# Altium footprint library Quadcopter.PcbLib: 19 footprints (part 1 of 2)
Each footprint in its own frame and in the unit in brackets; x right, y up, seen from the top. Pads: shape width x height; smd on the part's side, far side on the other; paste and mask are expansions set on the pad; w line width, h text height; cw(c..) or ccw(c..) is an arc to the next point about the centre after c.
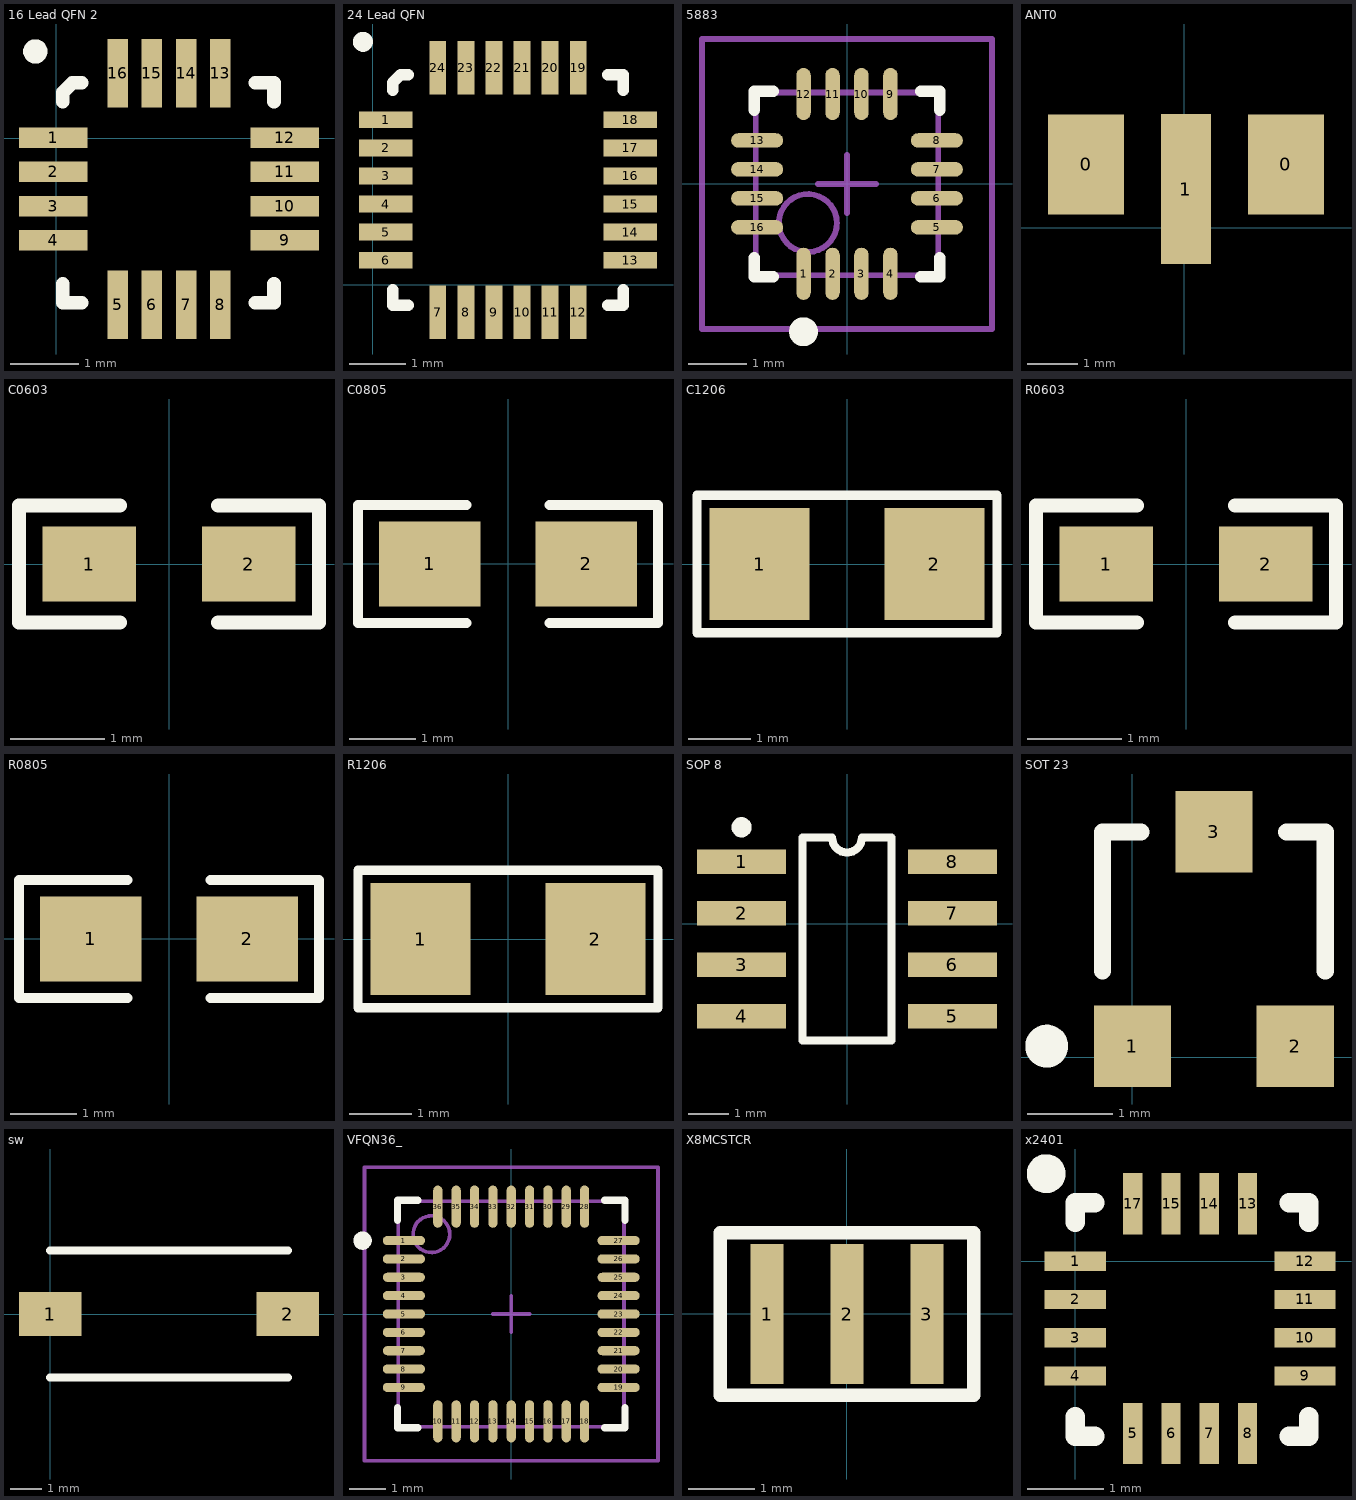
[diagram p0: the footprints below, top view; thin cyan lines are the x and y axes]

## 16 Lead QFN 2 [mm]
pads (16):
  rect 1x0.3 smd: 1(-0.042,0.011) 2(-0.042,-0.489) 3(-0.042,-0.989) 4(-0.042,-1.489) 9(3.34,-1.489) 10(3.34,-0.989) 11(3.34,-0.489) 12(3.34,0.011)
  rect 0.3x1 smd: 5(0.899,-2.43) 6(1.399,-2.43) 7(1.899,-2.43) 8(2.399,-2.43) 13(2.399,0.952) 14(1.899,0.952) 15(1.399,0.952) 16(0.899,0.952)
Top Overlay:
  circle w0.254: c-0.304,1.27 r0.05
  lines w0.2: 0.099,-2.125 0.099,-2.4 0.374,-2.4 ; 0.099,0.536 0.099,0.674 0.236,0.811 0.374,0.811 ; 2.908,-2.4 3.183,-2.4 3.183,-2.125 ; 2.908,0.811 3.183,0.811 3.183,0.536
3D body: height 0.9, standoff 0, extent 0.127,-2.413 3.175,0.762

## 24 Lead QFN [mm]
pads (24):
  rect 0.95x0.3 smd: 1(0.228,2.932) 2(0.228,2.432) 3(0.228,1.932) 4(0.228,1.432) 5(0.228,0.932) 6(0.228,0.432) 13(4.578,0.432) 14(4.578,0.932) 15(4.578,1.432) 16(4.578,1.932) 17(4.578,2.432) 18(4.578,2.932)
  rect 0.3x0.95 smd: 7(1.153,-0.493) 8(1.653,-0.493) 9(2.153,-0.493) 10(2.653,-0.493) 11(3.153,-0.493) 12(3.653,-0.493) 19(3.653,3.857) 20(3.153,3.857) 21(2.653,3.857) 22(2.153,3.857) 23(1.653,3.857) 24(1.153,3.857)
Top Overlay:
  circle w0.254: c-0.177,4.318 r0.05
  lines w0.2: 0.353,-0.093 0.353,-0.368 0.628,-0.368 ; 0.353,3.457 0.353,3.595 0.49,3.732 0.628,3.732 ; 4.178,-0.368 4.453,-0.368 4.453,-0.093 ; 4.178,3.732 4.453,3.732 4.453,3.457
3D body: height 0.89, standoff 0, extent 0.381,-0.381 4.445,3.683

## 5883 [mm] "QNF16"
pads (16):
  oval 0.25x0.9 smd: 1(-0.75,-1.55) 2(-0.25,-1.55) 3(0.25,-1.55) 4(0.75,-1.55) 9(0.75,1.55) 10(0.25,1.55) 11(-0.25,1.55) 12(-0.75,1.55)
  oval 0.9x0.25 smd: 5(1.55,-0.75) 6(1.55,-0.25) 7(1.55,0.25) 8(1.55,0.75) 13(-1.55,0.75) 14(-1.55,0.25) 15(-1.55,-0.25) 16(-1.55,-0.75)
Top Overlay:
  circle w0.25: c-0.75,-2.55 r0.125
  lines w0.2: -1.6,-1.275 -1.6,-1.6 -1.275,-1.6 ; -1.6,1.275 -1.6,1.6 -1.275,1.6 ; 1.275,-1.6 1.6,-1.6 1.6,-1.275 ; 1.275,1.6 1.6,1.6 1.6,1.275
Mechanical 13:
  circle w0.1: c-0.675,-0.675 r0.5
  lines w0.1: -1.575,-1.575 -1.575,1.575 1.575,1.575 1.575,-1.575 -1.575,-1.575
Mechanical 15:
  lines w0.1: -0.5,0 0.5,0 ; 0,-0.5 0,0.5 ; -2.5,-2.5 -2.5,2.5 2.5,2.5 2.5,-2.5 -2.5,-2.5
3D body: height 0.8, standoff 0, extent -1.575,-1.575 1.575,1.575

## ANT0 [mm]
pads (3):
  rect 1.524x2 smd: 0(-1.968,1.27) 0(2.032,1.27)
  rect 1x3 smd: 1(0.032,0.778)

## C0603 [mm]
pads (2):
  rect 1x0.8 smd: 1(-0.85,0) 2(0.85,0)
Top Overlay:
  lines w0.15: -0.525,-0.625 -1.6,-0.625 -1.6,0.625 -0.525,0.625 ; 0.525,-0.625 1.6,-0.625 1.6,0.625 0.525,0.625
3D body: height 0.8, standoff 0, extent -0.489,-0.381 0.489,0.381
3D body: height 0.8, standoff 0, extent 0.489,-0.381 0.787,0.381
3D body: height 0.8, standoff 0, extent -0.787,-0.381 -0.489,0.381

## C0805 [mm]
pads (2):
  rect 1.524x1.27 smd: 1(-1.175,0) 2(1.175,0)
Top Overlay:
  lines w0.15: -0.625,-0.887 -2.25,-0.887 -2.25,0.887 -0.625,0.887 ; 0.625,-0.888 2.25,-0.888 2.25,0.887 0.625,0.887
3D body: height 1, standoff 0, extent -1,-0.6 -0.595,0.6
3D body: height 1, standoff 0, extent 0.595,-0.6 1,0.6
3D body: height 1, standoff 0, extent -0.595,-0.6 0.595,0.6

## C1206 [mm]
pads (2):
  rect 1.6x1.8 smd: 1(-1.4,0) 2(1.4,0)
Top Overlay:
  lines w0.15: -2.4,-1.1 2.4,-1.1 2.4,1.1 -2.4,1.1 -2.4,0 -2.4,-1.1
3D body: height 1.25, standoff 0, extent -1.6,-0.8 -1.1,0.8
3D body: height 1.25, standoff 0, extent 1.1,-0.8 1.6,0.8
3D body: height 1.25, standoff 0, extent -1.1,-0.8 1.1,0.8

## R0603 [mm]
pads (2):
  rect 1x0.8 smd: 1(-0.85,0) 2(0.85,0)
Top Overlay:
  lines w0.15: -0.525,-0.625 -1.6,-0.625 -1.6,0.625 -0.525,0.625 ; 0.525,-0.625 1.6,-0.625 1.6,0.625 0.525,0.625
3D body: height 0.4, standoff 0, extent -0.787,-0.381 -0.489,0.381
3D body: height 0.4, standoff 0, extent 0.489,-0.381 0.787,0.381
3D body: height 0.4, standoff 0, extent -0.489,-0.381 0.489,0.381

## R0805 [mm]
pads (2):
  rect 1.524x1.27 smd: 1(-1.175,0) 2(1.175,0)
Top Overlay:
  lines w0.15: -0.625,-0.887 -2.25,-0.887 -2.25,0.887 -0.625,0.887 ; 0.625,-0.888 2.25,-0.888 2.25,0.887 0.625,0.887
3D body: height 0.5, standoff 0, extent -0.595,-0.6 0.595,0.6
3D body: height 0.5, standoff 0, extent 0.595,-0.6 1,0.6
3D body: height 0.5, standoff 0, extent -1,-0.6 -0.595,0.6

## R1206 [mm]
pads (2):
  rect 1.6x1.8 smd: 1(-1.4,0) 2(1.4,0)
Top Overlay:
  lines w0.15: -2.4,-1.1 -2.4,0 -2.4,1.1 2.4,1.1 2.4,-1.1 -2.4,-1.1
3D body: height 0.55, standoff 0, extent -1.1,-0.8 1.1,0.8
3D body: height 0.55, standoff 0, extent 1.1,-0.8 1.6,0.8
3D body: height 0.55, standoff 0, extent -1.6,-0.8 -1.1,0.8

## SOP 8 [mm]
pads (8):
  rect 2.2x0.6 smd: 1(-2.6,1.524) 2(-2.6,0.254) 3(-2.6,-1.016) 4(-2.6,-2.286) 5(2.6,-2.286) 6(2.6,-1.016) 7(2.6,0.254) 8(2.6,1.524)
Top Overlay:
  circle w0.25: c-2.6,2.374 r0.125
  lines w0.2: -1.1,-2.881 -1.1,2.119 -0.367,2.119 ccw(c0,2.119) 0.367,2.119 1.1,2.119 1.1,-2.881 -1.1,-2.881

## SOT 23 [mm]
pads (3):
  rect 0.9x0.95 smd: 1(0,0.127) 2(1.9,0.127) 3(0.95,2.627)
Top Overlay:
  circle w0.25: c-1,0.127 r0.125
  lines w0.2: -0.35,1.002 -0.35,2.627 0.1,2.627 ; 1.8,2.627 2.25,2.627 2.25,1.002
3D body: height 0.89, standoff 0, extent -0.381,0.508 2.286,2.286

## sw [mm]
pads (2):
  rect 2x1.4 smd: 1(0,0) 2(7.62,0)
Top Overlay:
  lines w0.254: 0,-2.032 7.62,-2.032 ; 0,2.032 7.62,2.032

## VFQN36_ [mm]
pads (36):
  oval 1.15x0.25 smd: 1(-2.925,2) 2(-2.925,1.5) 3(-2.925,1) 4(-2.925,0.5) 5(-2.925,0) 6(-2.925,-0.5) 7(-2.925,-1) 8(-2.925,-1.5) 9(-2.925,-2) 19(2.925,-2) 20(2.925,-1.5) 21(2.925,-1) 22(2.925,-0.5) 23(2.925,0) 24(2.925,0.5) 25(2.925,1) 26(2.925,1.5) 27(2.925,2)
  oval 0.25x1.15 smd: 10(-2,-2.925) 11(-1.5,-2.925) 12(-1,-2.925) 13(-0.5,-2.925) 14(0,-2.925) 15(0.5,-2.925) 16(1,-2.925) 17(1.5,-2.925) 18(2,-2.925) 28(2,2.925) 29(1.5,2.925) 30(1,2.925) 31(0.5,2.925) 32(0,2.925) 33(-0.5,2.925) 34(-1,2.925) 35(-1.5,2.925) 36(-2,2.925)
Top Overlay:
  circle w0.25: c-4.05,2 r0.125
  lines w0.2: -3.1,-2.55 -3.1,-3.1 -2.55,-3.1 ; -3.1,2.55 -3.1,3.1 -2.55,3.1 ; 2.55,-3.1 3.1,-3.1 3.1,-2.55 ; 2.55,3.1 3.1,3.1 3.1,2.55
Mechanical 13:
  circle w0.1: c-2.175,2.175 r0.5
  lines w0.1: -3.075,-3.075 3.075,-3.075 3.075,3.075 -3.075,3.075 -3.075,-3.075
Mechanical 15:
  lines w0.1: -0.5,0 0.5,0 ; 0,-0.5 0,0.5 ; -4,-4 4,-4 4,4 -4,4 -4,-4
3D body: height 1, standoff 0, extent -3.075,-3.075 3.075,3.075

## X8MCSTCR [mm]
pads (3):
  rect 0.5x2.1 smd: 1(-1.2,0) 2(0,0) 3(1.2,0)
Top Overlay:
  lines w0.2: -1.9,-1.219 1.9,-1.219 1.9,1.219 -1.9,1.219 -1.9,-1.219
3D body: height 0.4, standoff 0, extent -1.75,-0.65 1.75,0.65
3D body: height 0.7, standoff 0.4, extent -1.575,-0.525 1.575,0.525
3D body: height 0.4, standoff 0, extent -1.4,-0.651 -1,0.651
3D body: height 0.4, standoff 0, extent -0.2,-0.651 0.2,0.651
3D body: height 0.4, standoff 0, extent 1.025,-0.65 1.425,0.65

## x2401 [mm]
pads (16):
  rect 0.8x0.25 smd: 1(0,0) 2(0,-0.5) 3(0,-1) 4(0,-1.5) 9(3,-1.5) 10(3,-1) 11(3,-0.5) 12(3,0)
  rect 0.25x0.8 smd: 5(0.75,-2.25) 6(1.25,-2.25) 7(1.75,-2.25) 8(2.25,-2.25) 13(2.25,0.75) 14(1.75,0.75) 15(1.25,0.75) 17(0.75,0.75)
Top Overlay:
  circle w0.254: c-0.381,1.143 r0.127
  lines w0.254: 0,-2.032 0,-2.286 0.254,-2.286 ; 0,0.508 0,0.762 0.254,0.762 ; 2.794,-2.286 3.048,-2.286 3.048,-2.032 ; 2.794,0.762 3.048,0.762 3.048,0.508